# Altium footprint library 15_to_28_Pin.PcbLib: 49 footprints (part 2 of 4)
Each footprint in its own frame and in the unit in brackets; x right, y up, seen from the top. Pads: shape width x height; smd on the part's side, far side on the other; paste and mask are expansions set on the pad; w line width, h text height; cw(c..) or ccw(c..) is an arc to the next point about the centre after c.
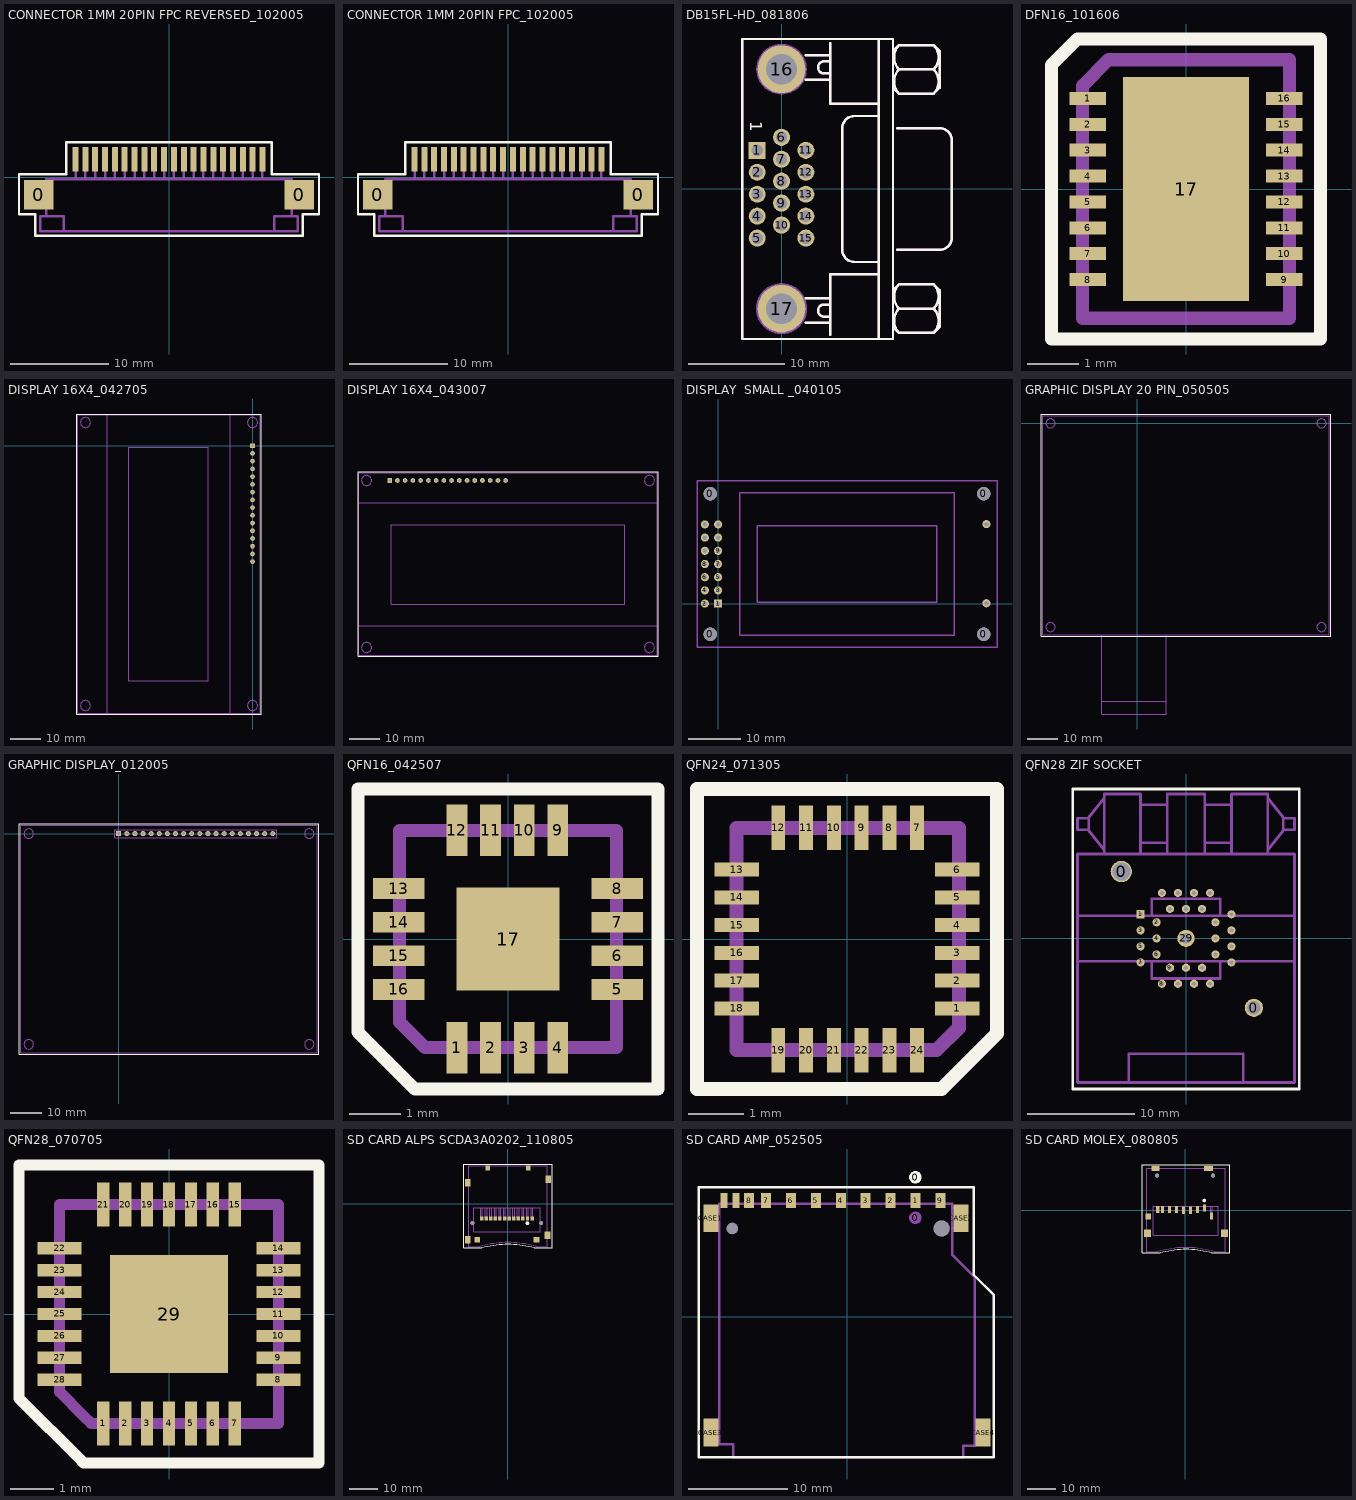
[diagram p1: the footprints below, top view; thin cyan lines are the x and y axes]

## CONNECTOR 1MM 20PIN FPC REVERSED_102005 [mm] "SMT"
height 3.048
pads (22):
  rect 3x3 smd mask+0.038: 0(-13.25,-1.8) 0(13.25,-1.8)
  rect 0.61x2.489 smd mask+0.038: 1(9.5,1.8) 2(8.5,1.8) 3(7.5,1.8) 4(6.5,1.8) 5(5.5,1.8) 6(4.5,1.8) 7(3.5,1.8) 8(2.5,1.8) 9(1.5,1.8) 10(0.5,1.8) 11(-0.5,1.8) 12(-1.5,1.8) 13(-2.5,1.8) 14(-3.5,1.8) 15(-4.5,1.8) 16(-5.5,1.8) 17(-6.5,1.8) 18(-7.5,1.8) 19(-8.5,1.8) 20(-9.5,1.8)
Top Overlay:
  lines w0.254: -15.25,-3.775 -13.6,-3.775 -13.6,-5.975 0,-5.975 13.6,-5.975 13.6,-3.775 15.25,-3.775 15.25,0.3 10.425,0.3 10.425,3.55 0,3.55 -10.425,3.55 -10.425,0.3 -15.25,0.3 -15.25,-3.775
Assembly Outline:
  lines w0.254: -12.85,-4 -10.7,-4 -10.7,-5.5 -13.1,-5.5 -13.1,-4 -12.5,-4 -12.5,-2.25 ; -12.5,-5.5 12.5,-5.5 ; -9.5,-0.2 -9.5,1.8 ; -8.5,-0.2 -8.5,1.8 ; -7.5,-0.2 -7.5,1.8 ; -6.5,-0.2 -6.5,1.8 ; -1.5,-0.2 -1.5,1.8 ; -0.5,-0.2 -0.5,1.8 ; 0.5,-0.2 0.5,1.8 ; 1.5,-0.2 1.5,1.8 ; 2.5,-0.2 2.5,1.8 ; 3.5,-0.2 3.5,1.8 ; 4.5,-0.2 4.5,1.8 ; 5.5,-0.2 5.5,1.8 ; 6.5,-0.2 6.5,1.8 ; 7.5,-0.2 7.5,1.8 ; 8.5,-0.2 8.5,1.8 ; 9.5,-0.2 9.5,1.8 ; 12.85,-4 10.7,-4 10.7,-5.5 13.1,-5.5 13.1,-4 12.5,-4 12.5,-2.25 ; -12.5,-2.25 -13.8,-2.25 -13.8,-0.95 -12.5,-0.95 ; -12.5,-2.25 -12.5,-0.95 ; -12.5,-0.95 -12.5,-0.2 0,-0.2 12.5,-0.2 12.5,-0.95 ; -3.5,-0.2 -3.5,1.8 ; -3.5,-0.2 -3.5,1.8 ; -3.5,-0.2 -3.5,1.8 ; -2.5,-0.2 -2.5,1.8 ; -2.5,-0.2 -2.5,1.8 ; -2.5,-0.2 -2.5,1.8 ; 12.5,-2.25 13.8,-2.25 13.8,-0.95 12.5,-0.95 ; 12.5,-2.25 12.5,-0.95 ; -5.5,-0.2 -5.5,1.8 -5.5,-0.2 ; -4.5,-0.2 -4.5,1.8 -4.5,-0.2
Assembly Designator:
  text ".Designator" at -1.651,-2.794 h1.02
Assembly Comment:
  text ".Comment" at -4.953,-4.445 h1.02

## CONNECTOR 1MM 20PIN FPC_102005 [mm] "SMT"
height 3.048
pads (22):
  rect 3x3 smd mask+0.038: 0(-13.25,-1.8) 0(13.25,-1.8)
  rect 0.61x2.489 smd mask+0.038: 1(-9.5,1.8) 2(-8.5,1.8) 3(-7.5,1.8) 4(-6.5,1.8) 5(-5.5,1.8) 6(-4.5,1.8) 7(-3.5,1.8) 8(-2.5,1.8) 9(-1.5,1.8) 10(-0.5,1.8) 11(0.5,1.8) 12(1.5,1.8) 13(2.5,1.8) 14(3.5,1.8) 15(4.5,1.8) 16(5.5,1.8) 17(6.5,1.8) 18(7.5,1.8) 19(8.5,1.8) 20(9.5,1.8)
Top Overlay:
  lines w0.254: -15.25,-3.775 -13.6,-3.775 -13.6,-5.975 0,-5.975 13.6,-5.975 13.6,-3.775 15.25,-3.775 15.25,0.3 10.425,0.3 10.425,3.55 0,3.55 -10.425,3.55 -10.425,0.3 -15.25,0.3 -15.25,-3.775
Assembly Outline:
  lines w0.254: -12.85,-4 -10.7,-4 -10.7,-5.5 -13.1,-5.5 -13.1,-4 -12.5,-4 -12.5,-2.25 ; -12.5,-5.5 12.5,-5.5 ; -9.5,-0.2 -9.5,1.8 ; -8.5,-0.2 -8.5,1.8 ; -7.5,-0.2 -7.5,1.8 ; -6.5,-0.2 -6.5,1.8 ; -1.5,-0.2 -1.5,1.8 ; -0.5,-0.2 -0.5,1.8 ; 0.5,-0.2 0.5,1.8 ; 1.5,-0.2 1.5,1.8 ; 2.5,-0.2 2.5,1.8 ; 3.5,-0.2 3.5,1.8 ; 4.5,-0.2 4.5,1.8 ; 5.5,-0.2 5.5,1.8 ; 6.5,-0.2 6.5,1.8 ; 7.5,-0.2 7.5,1.8 ; 8.5,-0.2 8.5,1.8 ; 9.5,-0.2 9.5,1.8 ; 12.85,-4 10.7,-4 10.7,-5.5 13.1,-5.5 13.1,-4 12.5,-4 12.5,-2.25 ; -12.5,-2.25 -13.8,-2.25 -13.8,-0.95 -12.5,-0.95 ; -12.5,-2.25 -12.5,-0.95 ; -12.5,-0.95 -12.5,-0.2 0,-0.2 12.5,-0.2 12.5,-0.95 ; -3.5,-0.2 -3.5,1.8 ; -3.5,-0.2 -3.5,1.8 ; -3.5,-0.2 -3.5,1.8 ; -2.5,-0.2 -2.5,1.8 ; -2.5,-0.2 -2.5,1.8 ; -2.5,-0.2 -2.5,1.8 ; 12.5,-2.25 13.8,-2.25 13.8,-0.95 12.5,-0.95 ; 12.5,-2.25 12.5,-0.95 ; -5.5,-0.2 -5.5,1.8 -5.5,-0.2 ; -4.5,-0.2 -4.5,1.8 -4.5,-0.2
Assembly Designator:
  text ".Designator" at -1.651,-2.794 h1.02
Assembly Comment:
  text ".Comment" at -4.953,-4.445 h1.02

## DB15FL-HD_081806 [mil] "TH"
height 490
pads (17):
  rect 70x70 hole 47: 1(-100,158.58)
  round 70 hole 47: 2(-100,68.38) 3(-100,-21.82) 4(-100,-112.02) 5(-100,-202.22) 6(0,212.08) 7(0,121.88) 8(0,31.68) 9(0,-58.52) 10(0,-148.72) 11(100,158.58) 12(100,68.38) 13(100,-21.82) 14(100,-112.02) 15(100,-202.22)
  round 196.65 hole 125.98: 16(0,492.09) 17(0,-492.09)
Top Overlay:
  lines w10: 100,-550.42 200,-550.42 ; 100,-450.42 200,-450.42 ; 100,449.58 200,449.58 ; 100,549.58 200,549.58 ; 200,-600.42 200,-350.42 400,-350.42 ; 200,-525.42 175,-525.42 cw(c175,-500.42) 175,-475.42 200,-475.42 ; 200,474.58 175,474.58 cw(c175,499.58) 175,524.58 200,524.58 ; 200,599.58 200,349.58 400,349.58 ; 400,-617.08 400,616.25 ; 400,-300.42 300,-300.42 cw(c300,-250.42) 250,-250.42 250,249.58 cw(c300,249.58) 300,299.58 400,299.58 ; 458.33,-567.08 483.33,-592.08 625,-592.08 650,-567.08 650,-417.08 625,-392.08 483.33,-392.08 458.33,-417.08 ; 458.33,416.25 483.33,391.25 625,391.25 650,416.25 650,566.25 625,591.25 483.33,591.25 458.33,566.25 ; 475,-250.42 650,-250.42 ccw(c650,-200.42) 700,-200.42 700,199.58 ccw(c650,199.58) 650,249.58 475,249.58 ; 483.25,-592.17 cw(c533.33,-542.08) 483.25,-492 ; 483.25,-492.17 cw(c533.33,-442.08) 483.25,-392 ; 483.25,391.16 cw(c533.33,441.25) 483.25,491.34 ; 483.25,491.16 cw(c533.33,541.25) 483.25,591.34 ; 483.33,-492.08 625,-492.08 ; 483.33,491.25 625,491.25 ; 625.09,-592.17 ccw(c575,-542.08) 625.09,-492 ; 625.09,-492.17 ccw(c575,-442.08) 625.09,-392 ; 625.09,391.16 ccw(c575,441.25) 625.09,491.34 ; 625.09,491.16 ccw(c575,541.25) 625.09,591.34 ; -161.67,-617.08 458.33,-617.08 458.33,616.25 -161.67,616.25 -161.67,-617.08
  text "1" at -129.33,277.52 h50
Assembly Outline:
  circle w10: c0,-492.08 r100.14
  circle w10: c0,492.08 r99.15
  lines w9.65: 458.33,616.25 -161.67,616.25 -161.67,276.25 -161.67,-617.08 ; -161.67,-617.08 -161.67,-617.08 ; -161.67,-617.08 -161.67,-617.08
  lines w10: -161.67,616.25 -161.67,-617.08 148.33,-617.08 458.33,-617.08 458.33,616.25 -116.67,616.25 ; 100,-550.42 200,-550.42 ; 100,-450.42 200,-450.42 ; 100,449.58 200,449.58 ; 100,549.58 200,549.58 ; 200,-600.42 200,-350.42 400,-350.42 ; 200,-525.42 175,-525.42 cw(c175,-500.42) 175,-475.42 200,-475.42 ; 200,474.58 175,474.58 cw(c175,499.58) 175,524.58 200,524.58 ; 200,599.58 200,349.58 400,349.58 ; 400,-617.08 400,616.25 ; 400,-300.42 300,-300.42 cw(c300,-250.42) 250,-250.42 250,249.58 cw(c300,249.58) 300,299.58 400,299.58 ; 458.33,-567.08 483.33,-592.08 625,-592.08 650,-567.08 650,-417.08 625,-392.08 483.33,-392.08 458.33,-417.08 ; 458.33,416.25 483.33,391.25 625,391.25 650,416.25 650,566.25 625,591.25 483.33,591.25 458.33,566.25 ; 475,-250.42 650,-250.42 ccw(c650,-200.42) 700,-200.42 700,199.58 ccw(c650,199.58) 650,249.58 475,249.58 ; 483.25,-592.17 cw(c533.33,-542.08) 483.25,-492 ; 483.25,-492.17 cw(c533.33,-442.08) 483.25,-392 ; 483.25,391.16 cw(c533.33,441.25) 483.25,491.34 ; 483.25,491.16 cw(c533.33,541.25) 483.25,591.34 ; 483.33,-492.08 625,-492.08 ; 483.33,491.25 625,491.25 ; 625.09,-592.17 ccw(c575,-542.08) 625.09,-492 ; 625.09,-492.17 ccw(c575,-442.08) 625.09,-392 ; 625.09,391.16 ccw(c575,441.25) 625.09,491.34 ; 625.09,491.16 ccw(c575,541.25) 625.09,591.34
Assembly Designator:
  text ".Designator" at 343,92.92 h40
Assembly Comment:
  text ".Comment" at 272,246.92 h40

## DFN16_101606 [mm] "SM"
height 0.75
pads (17):
  rect 0.7x0.25 smd mask+0.038: 1(-1.9,1.75) 2(-1.9,1.25) 3(-1.9,0.75) 4(-1.9,0.25) 5(-1.9,-0.25) 6(-1.9,-0.75) 7(-1.9,-1.25) 8(-1.9,-1.75) 9(1.9,-1.75) 10(1.9,-1.25) 11(1.9,-0.75) 12(1.9,-0.25) 13(1.9,0.25) 14(1.9,0.75) 15(1.9,1.25) 16(1.9,1.75)
  rect 2.44x4.34 smd: 17(0,0)
Top Overlay:
  lines w0.254: -2.6,-2.9 0,-2.9 2.6,-2.9 2.6,0 2.6,2.9 0,2.9 -2.1,2.9 -2.6,2.4 -2.6,0 -2.6,-2.9
Assembly Outline:
  lines w0.254: -2,-2.5 -2,2 -1.5,2.5 2,2.5 2,0 2,-2.5 -2,-2.5
Assembly Designator:
  text ".Designator" at -0.8,-0.4 h1.02
Assembly Comment:
  text ".Comment" at -3,-4.2 h1.02

## DISPLAY 16X4_042705 [mil] "TH"
height 550
pads (16):
  rect 60x60 hole 30: 1(0,0)
  round 60 hole 30: 2(0,-100) 3(0,-200) 4(0,-300) 5(0,-400) 6(0,-500) 7(0,-600) 8(0,-700) 9(0,-800) 10(0,-900) 11(0,-1000) 12(0,-1100) 13(0,-1200) 14(0,-1300) 15(0,-1400) 16(0,-1500)
Top Overlay:
  lines w8: -2270,-3470 -2270,410 110,410 110,-3470 -2270,-3470
Assembly Outline:
  circle w10: c-2160,-3360 r65.19
  circle w10: c0,-3360 r65.19
  circle w10: c0,300 r65.19
  circle w10: c-2160,300 r65.19
  lines w8: -2260,-3360 -2260,-3460 ; -2160,400 -2260,400 ; -1880,-3460 -1880,400 -2260,400 ; -290,400 -290,-3460 100,-3460 ; 0,-3460 100,-3460 ; 100,300 100,400 ; -2260,-3460 -2260,400 ; -2260,-3460 100,-3460 ; -2260,400 100,400 ; 100,-3460 100,400 ; -1600,-3040 -1600,-20 -570,-20 -570,-3040 -1600,-3040

## DISPLAY 16X4_043007 [mil] "TH"
pads (16):
  rect 60x60 hole 30: 1(-5356.3,-1387.8)
  round 60 hole 30: 2(-5256.3,-1387.8) 3(-5156.3,-1387.8) 4(-5056.3,-1387.8) 5(-4956.3,-1387.8) 6(-4856.3,-1387.8) 7(-4756.3,-1387.8) 8(-4656.3,-1387.8) 9(-4556.3,-1387.8) 10(-4456.3,-1387.8) 11(-4356.3,-1387.8) 12(-4256.3,-1387.8) 13(-4156.3,-1387.8) 14(-4056.3,-1387.8) 15(-3956.3,-1387.8) 16(-3856.3,-1387.8)
Top Overlay:
  lines w8: -5766.3,-3657.8 -5766.3,-1277.8 -1886.3,-1277.8 -1886.3,-3657.8 -5766.3,-3657.8
Assembly Outline:
  circle w10: c-5656.3,-3547.8 r65.19
  circle w10: c-5656.3,-1387.8 r65.19
  circle w10: c-1996.3,-1387.8 r65.19
  circle w10: c-1996.3,-3547.8 r65.19
  lines w8: -5756.3,-3547.8 -5756.3,-3647.8 ; -5756.3,-1677.8 -1896.3,-1677.8 -1896.3,-1287.8 ; -5656.3,-1287.8 -5756.3,-1287.8 ; -1996.3,-3647.8 -1896.3,-3647.8 ; -1896.3,-3267.8 -5756.3,-3267.8 -5756.3,-3647.8 ; -1896.3,-1387.8 -1896.3,-1287.8 ; -5756.3,-3647.8 -1896.3,-3647.8 ; -5756.3,-3647.8 -5756.3,-1287.8 ; -5756.3,-1287.8 -1896.3,-1287.8 ; -1896.3,-3647.8 -1896.3,-1287.8 ; -5336.3,-2987.8 -5336.3,-1957.8 -2316.3,-1957.8 -2316.3,-2987.8 -5336.3,-2987.8

## DISPLAY  SMALL _040105 [mil] "DISPLAY TH"
height 530
pads (20):
  round 100 hole 100: 0(-60,-232.5) 0(-60,832.5) 0(2015,-232.5) 0(2015,832.5)
  rect 62x62 hole 35: 1(0,0)
  round 62 hole 35: 2(-100,0) 3(0,100) 4(-100,100) 5(0,200) 6(-100,200) 7(0,300) 8(-100,300) 9(0,400) 10(-100,400) 11(0,500) 12(-100,500) 13(0,600) 14(-100,600) 15(2035,602.5) 16(2035,2.5)
Assembly Outline:
  lines w10: -160,300 -160,932.5 ; -60,932.5 -160,932.5 ; 977.5,-332.5 -160,-332.5 ; 2115,7.5 2115,-332.5 ; 2115,597.5 2115,932.5 ; -160,-332.5 -160,592.5 -160,932.5 ; -160,-332.5 2115,-332.5 ; -160,932.5 2115,932.5 ; 2115,-332.5 2115,932.5 ; 162.5,-240 162.5,300 162.5,840 1792.5,840 1792.5,300 1792.5,-240 162.5,-240 ; 297.5,10 297.5,300 297.5,590 1657.5,590 1657.5,300 1657.5,10 297.5,10
Assembly Designator:
  text ".Designator" at 816,258.5 h40
Assembly Comment:
  text ".Comment" at 866,184.5 h40

## GRAPHIC DISPLAY 20 PIN_050505 [mil] "SMT"
height 375
Top Overlay:
  lines w10: -1230,-2720 2470,-2720 2470,120 -1155,120 -1230,120 -1230,-2720
Assembly Outline:
  circle w10: c2350,0 r58.66
  circle w10: c2350,-2600 r58.66
  circle w10: c-1110,-2600 r58.66
  circle w10: c-1110,0 r58.66
  lines w10: 370,-3550 -455,-3550 -455,-3710 ; 370,-2700 370,-3710 -455,-3710 ; -1210,100 -1210,-2505 -1210,-2700 -1110,-2700 ; -1210,100 -1110,100 ; -1210,100 -1110,100 ; -1110,-2700 -455,-2700 -455,-3710 ; -1110,-2700 2450,-2700 2450,-2600 2450,100 ; -1110,100 2350,100 ; -1110,100 2350,100 ; 2350,100 2450,100 ; 2350,100 2450,100

## GRAPHIC DISPLAY_012005 [mil] "TH"
pads (20):
  rect 62x62 hole 35: 1(0,0)
  round 62 hole 35: 2(100,0) 3(200,0) 4(300,0) 5(400,0) 6(500,0) 7(600,0) 8(700,0) 9(800,0) 10(900,0) 11(1000,0) 12(1100,0) 13(1200,0) 14(1300,0) 15(1400,0) 16(1500,0) 17(1600,0) 18(1700,0) 19(1800,0) 20(1900,0)
Top Overlay:
  lines w10: -1230,-2720 -1230,120 -1155,120 2470,120 2470,-2720 -1230,-2720
Assembly Outline:
  circle w10: c-1110,0 r58.66
  circle w10: c-1110,-2600 r58.66
  circle w10: c2350,-2600 r58.66
  circle w10: c2350,0 r58.66
  lines w8: -50,-50 1950,-50 1950,50 25,50 -50,50 -50,-50
  lines w10: -1210,100 -1110,100 ; -1210,100 -1110,100 ; -1210,100 -1210,-2505 -1210,-2700 -1110,-2700 2450,-2700 2450,-2600 2450,100 ; -1110,100 2350,100 ; -1110,100 2350,100 ; 2350,100 2450,100 ; 2350,100 2450,100
Assembly Designator:
  text ".Designator" at 845,-185 h40
Assembly Comment:
  text ".Comment" at 770,-125 h40

## QFN16_042507 [mm] "SMT"
height 1
pads (17):
  rect 0.4x1 smd mask+0.025: 1(-0.987,-2.1) 2(-0.337,-2.1) 3(0.313,-2.1) 4(0.963,-2.1) 9(0.963,2.1) 10(0.313,2.1) 11(-0.337,2.1) 12(-0.987,2.1)
  rect 1x0.4 smd mask+0.025: 5(2.113,-0.975) 6(2.113,-0.325) 7(2.113,0.325) 8(2.113,0.975) 13(-2.112,0.975) 14(-2.112,0.325) 15(-2.112,-0.325) 16(-2.112,-0.975)
  rect 2x2 smd: 17(0,0)
Top Overlay:
  lines w0.254: -2.9,-1.8 -1.8,-2.9 0,-2.9 2.9,-2.9 2.9,0 2.9,2.9 0,2.9 -2.9,2.9 -2.9,0 -2.9,-1.8
Assembly Outline:
  lines w0.254: -2.1,-1.6 -2.1,2.1 2.1,2.1 2.1,0 2.1,-2.1 -1.6,-2.1 -2.1,-1.6
Assembly Designator:
  text ".Designator" at -0.8,-0.3 h1.02
Assembly Comment:
  text ".Comment" at -2.8,-4.35 h1.02

## QFN24_071305 [mm] "SMT"
height 0.75
pads (24):
  rect 0.8x0.25 smd mask+0.038: 1(1.988,-1.25) 2(1.988,-0.75) 3(1.988,-0.25) 4(1.988,0.25) 5(1.988,0.75) 6(1.988,1.25) 13(-1.987,1.25) 14(-1.987,0.75) 15(-1.987,0.25) 16(-1.987,-0.25) 17(-1.987,-0.75) 18(-1.987,-1.25)
  rect 0.25x0.8 smd mask+0.038: 7(1.263,2) 8(0.763,2) 9(0.263,2) 10(-0.237,2) 11(-0.737,2) 12(-1.237,2) 19(-1.237,-2) 20(-0.737,-2) 21(-0.237,-2) 22(0.263,-2) 23(0.763,-2) 24(1.263,-2)
Top Overlay:
  lines w0.254: 2.7,0 2.7,2.7 ; 2.7,2.7 2.7,-1.7 1.7,-2.7 -2.7,-2.7 -2.7,2.7 2.7,2.7
Assembly Outline:
  lines w0.254: 0.013,2 -1.987,2 ; -1.987,2 2.013,2 2.013,-1.6 1.613,-2 -1.987,-2 -1.987,2
Assembly Designator:
  text ".Designator" at -1.05,-0.425 h1.02
Assembly Comment:
  text ".Comment" at -2.7,-3.7 h1.02

## QFN28 ZIF SOCKET [mil] "TH"
height 20669.29
pads (31):
  round 78.74 hole 66.93: 0(-238.19,246.06)
  round 66.93 hole 49.21: 0(250,-255.91)
  rect 30x30 hole 14 mask+1.5: 1(-167.32,88.58)
  round 30 hole 14 mask+1.5: 2(-108.27,59.06) 3(-167.32,29.53) 4(-108.27,0) 5(-167.32,-29.53) 6(-108.27,-59.05) 7(-167.32,-88.58) 8(-88.58,-167.32) 9(-59.06,-108.27) 10(-29.53,-167.32) 11(0,-108.27) 12(29.53,-167.32) 13(59.06,-108.27) 14(88.58,-167.32) 15(167.32,-88.58) 16(108.27,-59.05) 17(167.32,-29.53) 18(108.27,0) 19(167.32,29.53) 20(108.27,59.06) 21(167.32,88.58) 22(88.58,167.32) 23(59.06,108.27) 24(29.53,167.32) 25(0,108.27) 26(-29.53,167.32) 27(-59.06,108.27) 28(-88.58,167.32)
  round 62.99 hole 39.37: 29(0,0)
Top Overlay:
  lines w10: -417.32,-555.12 -417.32,0 -417.32,550.2 417.32,550.2 417.32,0 417.32,-555.12 0,-555.12 -417.32,-555.12
Assembly Outline:
  lines w10: -360.24,399.61 -301.18,324.8 ; -358.27,442.91 -358.27,399.61 -399.61,399.61 -399.61,442.91 -360.24,442.91 -301.18,517.72 -301.18,531.5 ; -301.18,442.91 -301.18,421.26 -301.18,531.5 ; -210.63,-531.5 -210.63,-425.2 0,-425.2 210.63,-425.2 210.63,-531.5 ; -167.32,352.36 -68.9,352.36 ; -68.9,492.13 -167.32,492.13 -167.32,531.5 ; 68.9,352.36 167.32,352.36 ; 68.9,492.13 167.32,492.13 167.32,531.5 ; 301.18,324.8 360.24,399.61 ; 301.18,442.91 301.18,421.26 301.18,531.5 ; 358.27,442.91 358.27,399.61 399.61,399.61 399.61,442.91 360.24,442.91 301.18,517.72 301.18,531.5 ; -301.18,311.02 -399.61,311.02 -399.61,0 -399.61,-531.5 0,-531.5 399.61,-531.5 399.61,0 399.61,311.02 301.18,311.02 ; -301.18,311.02 -167.32,311.02 ; -301.18,311.02 -301.18,531.5 ; -301.18,531.5 -167.32,531.5 ; -167.32,311.02 167.32,311.02 ; -167.32,311.02 -167.32,531.5 ; -125.98,82.68 -399.61,82.68 -399.61,-84.65 399.61,-84.65 399.61,82.68 125.98,82.68 ; -125.98,82.68 0,82.68 125.98,82.68 ; -125.98,82.68 -125.98,145.67 0,145.67 125.98,145.67 125.98,82.68 ; 167.32,311.02 167.32,531.5 ; 167.32,311.02 301.18,311.02 ; 167.32,531.5 301.18,531.5 ; 301.18,311.02 301.18,531.5 ; -125.98,-147.64 125.98,-147.64 125.98,-84.65 0,-84.65 -125.98,-84.65 -125.98,-147.64 ; -68.9,311.02 -7.87,311.02 0,311.02 7.87,311.02 68.9,311.02 68.9,531.5 0,531.5 -68.9,531.5 -68.9,311.02
Assembly Designator:
  text ".Designator" at -34.45,-249.02 h40
Assembly Comment:
  text ".Comment" at -197.83,-318.9 h40

## QFN28_070705 [mm] "SMT"
height 0.889
pads (29):
  rect 0.28x1 smd mask+0.038: 1(-1.5,-2.5) 2(-1,-2.5) 3(-0.5,-2.5) 4(0,-2.5) 5(0.5,-2.5) 6(1,-2.5) 7(1.5,-2.5) 15(1.5,2.5) 16(1,2.5) 17(0.5,2.5) 18(0,2.5) 19(-0.5,2.5) 20(-1,2.5) 21(-1.5,2.5)
  rect 1x0.28 smd mask+0.038: 8(2.5,-1.5) 9(2.5,-1) 10(2.5,-0.5) 11(2.5,0) 12(2.5,0.5) 13(2.5,1) 14(2.5,1.5) 22(-2.5,1.5) 23(-2.5,1) 24(-2.5,0.5) 25(-2.5,0) 26(-2.5,-0.5) 27(-2.5,-1) 28(-2.5,-1.5)
  rect 2.7x2.7 smd paste-0.508 mask+0.038: 29(0,0)
Top Overlay:
  lines w0.254: -3.425,-1.925 -2,-3.35 -1.95,-3.4 0,-3.4 1.1,-3.4 3.425,-3.4 3.425,0 3.425,3.4 1.1,3.4 -1.1,3.4 -3.425,3.4 -3.425,0 -3.425,-1.925
Assembly Outline:
  lines w0.254: 0,2.5 -2.5,2.5 ; -2.5,2.5 -2.5,-1.775 -1.95,-2.325 -1.775,-2.5 2.5,-2.5 2.5,2.5 -2.5,2.5
Assembly Designator:
  text ".Designator" at -0.875,-0.35 h1.02
Assembly Comment:
  text ".Comment" at -2.6,-5 h1.02

## SD CARD ALPS SCDA3A0202_110805 [mm] "SMT"
height 2.9
pads (24):
  round 1.3 hole 1.3 unplated paste+0 mask+0.038: 0(-12.4,-6.7) 0(11.6,-6.7)
  round 1.27 on Top Overlay paste+0 mask+0.038: 0(6.775,-6.75)
  round 1.27 on Mech1 paste+0 mask+0.038: 0(6.775,-6.75)
  rect 1.2x1.4 smd paste+0 mask+0.038: 1(6.8,-5.1) 2(5.2,-5.1) 3(2,-5.1) 3(3.6,-5.1) 4(-1.2,-5.1) 4(0.4,-5.1) 5(-2.8,-5.1) 6(-4.4,-5.1) 7(-6,-5.1) 8(-7.6,-5.1) 9(8.4,-5.1) WP(-9.2,-5.1)
  rect 2x2 smd paste+0 mask+0.038: CASE1(-10.75,-12.5) CASE2(9.95,-12.5)
  rect 1.6x1.7 smd paste+0 mask+0.038: CASE3(7.05,12.5) CD(-7.05,12.5)
  rect 2x2.6 smd paste+0 mask+0.038: CASE4(-14,-12.5) CASE4(-14,7.3) CASE4(13.75,-10.95) CASE4(14,8.5)
Top Overlay:
  lines w0.254: -15.5,-15.372 -15.5,13.875 15.5,13.875 15.5,-15.372 15.225,-15.372 9.233,-15.372 ccw(c-0.45,-52.405) 0,-14.13 ccw(c0.45,-52.405) -9.233,-15.372 -15.5,-15.372
Assembly Outline:
  lines w0.254: -13.75,-12.7 -14.25,-12.7 -14.25,-12.2 -14.25,-11.7 -13.75,-11.7 ; -13.75,-12.2 -13.75,13.3 ; -13.75,-9.7 -13.75,13.3 ; -13.75,-5.8 -13.75,13.3 ; -13.75,-5.2 -13.75,13.3 ; -13.75,-1.4 -13.75,13.3 ; -13.75,6.95 -14.25,6.95 -14.25,7.45 -14.25,7.95 -13.75,7.95 ; -13.75,11.7 -13.75,13.3 ; -12,13.3 -13.75,13.3 ; -9.725,-1.4 -9.5,-1.4 -9.5,-5.1 -9.2,-5.1 -8.9,-5.1 -8.9,-1.4 ; -7.9,-1.4 -7.9,-5.1 -7.6,-5.1 -7.3,-5.1 -7.3,-1.4 ; -6.3,-1.4 -6.3,-5.1 -6,-5.1 -5.7,-5.1 -5.7,-1.4 ; -4.7,-1.4 -4.7,-5.1 -4.4,-5.1 -4.1,-5.1 -4.1,-1.4 ; -3.1,-1.4 -3.1,-5.1 -2.8,-5.1 -2.5,-5.1 -2.5,-1.4 ; -1.5,-1.4 -1.5,-5.1 -1.2,-5.1 -0.9,-5.1 -0.9,-1.4 ; 0.1,-1.4 0.1,-5.1 0.4,-5.1 0.7,-5.1 0.7,-1.4 ; 1.7,-1.4 1.7,-5.1 2,-5.1 2.3,-5.1 2.3,-1.4 ; 3.3,-1.4 3.3,-5.1 3.6,-5.1 3.9,-5.1 3.9,-1.4 ; 4.9,-1.4 4.9,-5.1 5.2,-5.1 5.5,-5.1 5.5,-1.4 ; 6.5,-1.4 6.5,-5.1 6.8,-5.1 7.1,-5.1 7.1,-1.4 ; 8.1,-1.4 8.1,-5.1 8.4,-5.1 8.7,-5.1 8.7,-1.4 ; 11.25,13.3 13.75,13.3 ; 13.75,-11.45 14.25,-11.45 14.25,-10.95 14.25,-10.45 13.75,-10.45 ; 13.75,-10.95 13.75,13.3 ; 13.75,8.3 14.25,8.3 14.25,8.8 14.25,9.3 13.75,9.3 ; 13.75,8.8 13.75,13.3 ; -13.75,13.3 -13.75,-4.4 -13.75,13.3 ; -13.75,13.3 -13.75,-14.9 -10.001,-14.9 cw(c0.425,-51.73) 0,-13.455 cw(c-0.425,-51.73) 10.001,-14.9 13.75,-14.9 13.75,13.3 ; -13.75,13.3 13.75,13.3 ; -12,-9.7 9.725,-9.7 11.25,-9.7 11.25,-3.5 11.25,-1.4 10.475,-1.4 -12,-1.4 -12,-9.7
Assembly Designator:
  text ".Designator" at -0.6,-0.15 h1.02
Assembly Comment:
  text ".Comment" at -0.55,1.325 h1.02

## SD CARD AMP_052505 [mm] "SMT"
height 3.175
pads (19):
  round 0.4 hole 1.143 unplated paste+0 mask+0.038: 0(-11.5,8.837)
  round 1.27 on Mech1 paste+0 mask+0.038: 0(6.858,9.906)
  round 1.27 on Top Overlay paste+0 mask+0.038: 0(6.858,13.97)
  round 0.4 hole 1.6 unplated paste+0 mask+0.038: 0(9.5,8.837)
  rect 1x1.5 smd paste+0 mask+0.038: 1(6.875,11.637) 2(4.375,11.637) 3(1.875,11.637) 4(-0.625,11.637) 5(-3.125,11.637) 6(-5.625,11.637) 7(-8.125,11.637) 8(-9.825,11.637) 9(9.375,11.637)
  rect 1.5x2.8 smd paste+0 mask+0.038: CASE1(-13.65,9.862) CASE2(11.45,9.862) CASE3(-13.65,-11.637) CASE4(13.65,-11.637)
  rect 0.7x1.5 smd paste+0 mask+0.038: CD(-11.125,11.637) WP(-12.325,11.637)
Top Overlay:
  lines w0.254: -14.859,-14.097 14.732,-14.097 14.732,2.159 12.7,4.191 12.7,12.954 -14.859,12.954 -14.859,-14.097
Assembly Outline:
  circle w0.254: c-11.506,8.839 r0.457
  circle w0.254: c9.5,8.839 r0.686
  rectangle: 9.144,11.303 9.652,12.065
  rectangle: 6.604,11.303 7.112,12.065
  rectangle: 4.115,11.303 4.623,12.065
  rectangle: 1.626,11.303 2.134,12.065
  rectangle: -0.864,11.303 -0.356,12.065
  rectangle: -3.378,11.303 -2.87,12.065
  rectangle: -5.867,11.303 -5.359,12.065
  rectangle: -8.382,11.303 -7.874,12.065
  rectangle: -10.084,11.303 -9.576,12.065
  rectangle: -11.379,11.303 -10.871,12.065
  rectangle: -12.573,11.303 -12.065,12.065
  lines w0.254: -12.827,-12.573 -13.843,-12.573 -13.843,-10.541 -12.827,-10.541 ; -12.827,8.89 -13.843,8.89 -13.843,10.922 -12.827,10.922 ; 10.541,8.89 11.557,8.89 11.557,10.922 10.541,10.922 ; 12.827,-12.573 13.843,-12.573 13.843,-10.541 12.827,-10.541 ; -12.827,-12.827 -11.43,-12.827 -11.43,-14.097 11.684,-14.097 11.684,-12.954 12.827,-12.954 12.827,3.937 10.541,6.223 10.541,11.303 -12.827,11.303 -12.827,-12.827
Assembly Designator:
  text ".Designator" at -2.032,-1.981 h1.02
Assembly Comment:
  text ".Comment" at -7.569,8.052 h1.02

## SD CARD MOLEX_080805 [mm] "SMT"
height 3.1
pads (18):
  round 1.36 hole 1.36 unplated paste+0 mask+0.038: 0(-10.025,12.375) 0(9.975,12.375)
  round 1.27 on Top Overlay paste+0 mask+0.038: 0(6.825,3.475)
  round 1.27 on Mech1 paste+0 mask+0.038: 0(6.825,3.475)
  rect 1.1x2.5 smd paste+0 mask+0.038: 1(6.85,0.8) 2(4.35,0.275) 3(1.85,0) 4(-0.65,0) 5(-3.15,0.275) 6(-5.65,0.275) 7(-8.15,0.275) 8(-9.775,0.275) 9(9.35,-2.125)
  rect 2.5x2.6 smd paste+0 mask+0.038: CASE1(-13.425,-8.225) CASE2(13.975,-8.225)
  rect 2.8x1.7 smd paste+0 mask+0.038: CASE3(-10.575,14.85)
  rect 3.3x1.7 smd paste+0 mask+0.038: CD(8.325,14.85)
  rect 1.95x2.3 smd paste+0 mask+0.038: WP(-13.15,-2.225)
Top Overlay:
  lines w0.254: -15.325,-15.218 -8.933,-15.218 cw(c0.75,-52.25) 0.3,-13.975 cw(c-0.15,-52.25) 9.533,-15.218 15.975,-15.218 15.975,16.3 14.775,16.3 0.325,16.3 -14.125,16.3 -15.325,16.3 -15.325,-15.218
Assembly Outline:
  lines w0.254: -13.7,-9.125 -14.225,-9.125 -14.225,-8.225 -14.225,-7.325 -13.7,-7.325 ; 0.3,15.05 14.3,15.05 ; 6.6,1.45 6.6,-0.125 ; 7.1,1.45 7.1,-0.125 ; 14.3,-9.125 14.775,-9.125 14.775,-8.225 14.775,-7.325 14.3,-7.325 ; -10.025,-0.65 -9.775,-0.65 ; -10.025,-0.65 -10.025,1.45 ; -10.025,-0.65 -10.025,1.45 ; -10.025,-0.65 -9.775,-0.65 ; -10.025,1.45 -9.525,1.45 ; -10.025,1.45 -9.525,1.45 ; -9.775,-0.65 -9.525,-0.65 ; -9.775,-0.65 -9.525,-0.65 ; -9.525,-0.65 -9.525,1.45 ; -9.525,-0.65 -9.525,1.45 ; 6.6,-0.125 6.85,-0.125 7.1,-0.125 ; 6.6,-0.125 7.1,-0.125 ; 14.3,15.05 14.3,-14.745 10.301,-14.745 ccw(c-0.125,-51.575) 0.3,-13.3 ccw(c0.725,-51.575) -9.701,-14.745 -13.7,-14.745 -13.7,1.45 -13.7,15.05 14.3,15.05 ; -11.4,-8.95 -11.4,1.45 11.8,1.45 11.8,-8.95 -11.4,-8.95 ; -8.4,-0.65 -8.4,1.45 -7.9,1.45 -7.9,-0.65 -8.15,-0.65 -8.4,-0.65 ; -5.9,-0.65 -5.9,1.45 -5.4,1.45 -5.4,-0.65 -5.65,-0.65 -5.9,-0.65 ; -3.4,-0.65 -3.4,1.45 -2.9,1.45 -2.9,-0.65 -3.15,-0.65 -3.4,-0.65 ; -0.9,-0.925 -0.9,1.175 -0.9,1.45 -0.4,1.45 -0.4,1.175 -0.4,-0.925 -0.65,-0.925 -0.9,-0.925 ; 1.6,-0.925 1.6,1.175 1.6,1.45 2.1,1.45 2.1,1.175 2.1,-0.925 1.85,-0.925 1.6,-0.925 ; 4.1,-0.65 4.1,1.45 4.6,1.45 4.6,-0.65 4.35,-0.65 4.1,-0.65 ; 9.1,-3.05 9.1,-0.95 9.1,1.45 9.6,1.45 9.6,-0.95 9.6,-3.05 9.35,-3.05 9.1,-3.05
Assembly Designator:
  text ".Designator" at -1.275,4.725 h1.02
Assembly Comment:
  text ".Comment" at -2.625,2.025 h1.02